# Altium schematic symbol library USBConnectors.SchLib: 1 symbol
Pins are listed as number, name and electrical type; pins without a type are passive.

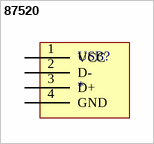
[diagram p0: symbol 87520]

## 87520
designator USB?
87520 USB Through Hole Type A Right Angle Receptacle
footprint 87520-0010BLF (USB Type A Connector - PCB Mount Through Hole Right Angle)
pins: 1 VCC, 2 D-, 3 D+, 4 GND